# Altium schematic symbol library PJ-063BH.SchLib: 1 symbol
Pins are listed as number, name and electrical type; pins without a type are passive.

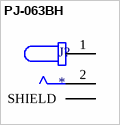
[diagram p0: symbol PJ-063BH]

## PJ-063BH
designator J?
2.5 mm Center Pin, 8.0 A, Right Angle, Through Hole, Shielded, Kinked Pins, Dc Power Jack Connector; MP: PJ-063BH; Value: *; Price: None; Availability: Unavailable; Package: None
footprint CUI_PJ-063BH
pins: 1, 2, S1 SHIELD (power), S2 SHIELD (power)